# Altium schematic symbol library UCC2751x.Schlib: 1 symbol
Pins are listed as number, name and electrical type; pins without a type are passive.

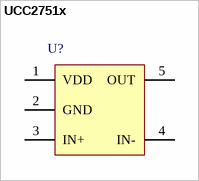
[diagram p0: symbol UCC2751x]

## UCC2751x
designator U?  (value not drawn)
Gate Driver
pins: 1 VDD, 2 GND, 3 IN+, 4 IN-, 5 OUT